# Altium footprint library PCB_Potentiostat_revA1.PcbLib: 33 footprints (part 2 of 3)
Each footprint in its own frame and in the unit in brackets; x right, y up, seen from the top. Pads: shape width x height; smd on the part's side, far side on the other; paste and mask are expansions set on the pad; w line width, h text height; cw(c..) or ccw(c..) is an arc to the next point about the centre after c.
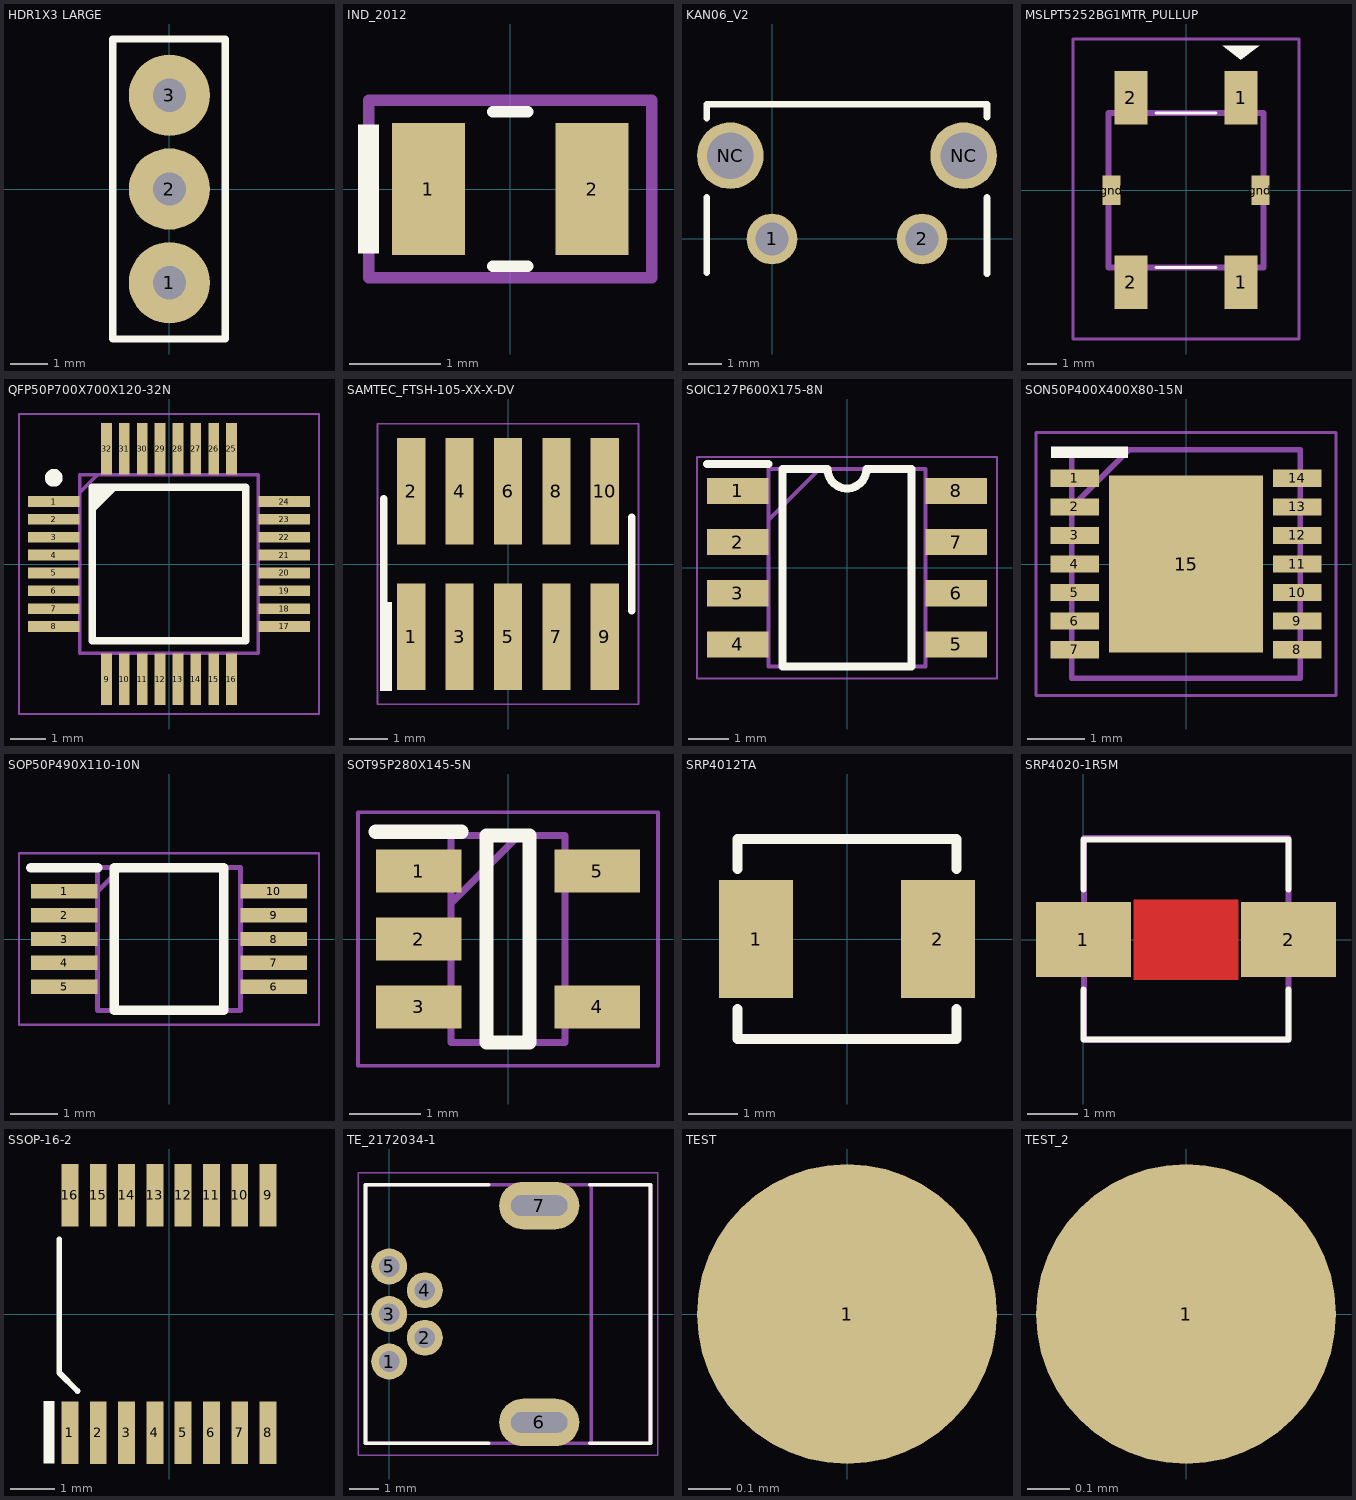
[diagram p1: the footprints below, top view; thin cyan lines are the x and y axes]

## HDR1X3 LARGE [mm] "Connector; Header; 5x2 Position"
height 1.5
pads (3):
  round 2.2 hole 0.9: 1(0,-2.54) 2(0,0) 3(0,2.54)
Top Overlay:
  lines w0.2: -1.532,-4.064 1.508,-4.064 1.508,4.064 -1.532,4.064 -1.532,-4.064

## IND_2012 [mm]
height 1.5
pads (2):
  rect 0.803x1.45 smd: 1(-0.902,0) 2(0.902,0)
Top Overlay:
  rectangle: -1.676,-0.711 -1.448,0.711
  lines w0.127: -0.192,-0.852 0.192,-0.852 ; -0.192,0.852 0.192,0.852
Mechanical 13:
  lines w0.127: -1.557,-0.979 -1.557,0.979 1.557,0.979 1.557,-0.979 -1.557,-0.979
3D body "74479023.stp": height 1.25, standoff 0, extent -1,-0.625 1,0.625

## KAN06_V2 [mm]
height 1.5
pads (4):
  round 1.524 hole 1: 1(0,0) 2(4.5,0)
  round 2 hole 1.4: NC(-1.25,2.5) NC(5.75,2.5)
Top Overlay:
  lines w0.203: -1.956,-1.016 -1.956,1.245 ; -1.956,3.632 -1.956,4.039 6.452,4.039 6.452,3.658 ; 6.452,-1.041 6.452,1.245
Mechanical 13:
  text "BOARD" at -0.025,-1.93 h1.02
3D body "KAN0631 - 0731B.stp": height 6, standoff -5, extent -1.939,-6.275 6.45,4.025

## MSLPT5252BG1MTR_PULLUP [mm]
height 1.5
pads (6):
  rect 1.1x1.8 smd: 1(1.85,-3.1) 1(1.85,3.1) 2(-1.85,-3.1) 2(-1.85,3.1)
  rect 0.6x1 smd: gnd(-2.5,0) gnd(2.5,0)
Top Overlay:
  region: 1.847,4.379 2.457,4.862 1.238,4.862
  lines w0.1: -1,-2.6 1,-2.6 ; -1,2.6 1,2.6
Mechanical 13:
  lines w0.1: -3.8,-5 -3.8,5.08 3.8,5.08 3.8,-5 -3.8,-5
  lines w0.2: -2.6,-2.6 -2.6,2.6 2.6,2.6 2.6,-2.6 -2.6,-2.6
3D body "MSLPT5252BG1MTR.stp": height 1.8, standoff 0, extent -2.74,-3.89 2.74,3.89

## QFP50P700X700X120-32N [mm]
height 1.5
pads (32):
  rect 1.45x0.3 smd: 1(-3.225,1.75) 2(-3.225,1.25) 3(-3.225,0.75) 4(-3.225,0.25) 5(-3.225,-0.25) 6(-3.225,-0.75) 7(-3.225,-1.25) 8(-3.225,-1.75) 17(3.225,-1.75) 18(3.225,-1.25) 19(3.225,-0.75) 20(3.225,-0.25) 21(3.225,0.25) 22(3.225,0.75) 23(3.225,1.25) 24(3.225,1.75)
  rect 0.3x1.45 smd: 9(-1.75,-3.225) 10(-1.25,-3.225) 11(-0.75,-3.225) 12(-0.25,-3.225) 13(0.25,-3.225) 14(0.75,-3.225) 15(1.25,-3.225) 16(1.75,-3.225) 25(1.75,3.225) 26(1.25,3.225) 27(0.75,3.225) 28(0.25,3.225) 29(-0.25,3.225) 30(-0.75,3.225) 31(-1.25,3.225) 32(-1.75,3.225)
Top Overlay:
  circle w0.25: c-3.226,2.413 r0.125
  region: -2.15,2.15 -2.159,1.397 -1.397,2.159
  lines w0.2: -2.15,-2.15 2.15,-2.15 2.15,2.15 -2.15,2.15 -2.15,-2.15
Mechanical 13:
  lines w0.05: -4.2,-4.2 4.2,-4.2 4.2,4.2 -4.2,4.2 -4.2,-4.2
  lines w0.1: -2.5,2 -2,2.5 ; -2.5,-2.5 2.5,-2.5 2.5,2.5 -2.5,2.5 -2.5,-2.5
3D body "ADS131A02IPBS.stp": height 1.12, standoff 0.03, extent -3.5,-3.5 3.5,3.5

## SAMTEC_FTSH-105-XX-X-DV [mm]
height 1.5
pads (10):
  rect 0.74x2.79 smd: 1(-2.54,-1.905) 2(-2.54,1.905) 3(-1.27,-1.905) 4(-1.27,1.905) 5(0,-1.905) 6(0,1.905) 7(1.27,-1.905) 8(1.27,1.905) 9(2.54,-1.905) 10(2.54,1.905)
Top Overlay:
  rectangle: -3.353,-3.327 -3.048,-0.991
  lines w0.2: -3.26,-1.715 -3.26,1.715 ; 3.251,-1.219 3.251,1.219
Mechanical 13:
  lines w0.05: -3.425,-3.68 -3.425,3.68 3.425,3.68 3.425,-3.68 -3.425,-3.68
3D body "step_temp.STEP": height 5.94, standoff -0.03, extent -3.175,-2.921 3.175,2.921

## SOIC127P600X175-8N [mm]
pads (8):
  rect 1.525x0.65 smd: 1(-2.712,1.905) 2(-2.712,0.635) 3(-2.712,-0.635) 4(-2.712,-1.905) 5(2.712,-1.905) 6(2.712,-0.635) 7(2.712,0.635) 8(2.712,1.905)
Top Overlay:
  lines w0.2: -3.475,2.58 -1.95,2.58 ; -0.483,2.45 -1.6,2.45 -1.6,-2.45 1.6,-2.45 1.6,2.45 0.483,2.45
  lines w0.203: -0.483,2.45 ccw(c0,2.45) 0.483,2.45
Mechanical 13:
  lines w0.05: -3.725,-2.75 -3.725,2.75 3.725,2.75 3.725,-2.75 -3.725,-2.75
  lines w0.1: -1.95,1.18 -0.68,2.45 ; -1.95,-2.45 -1.95,2.45 1.95,2.45 1.95,-2.45 -1.95,-2.45
3D body "OP275GSZ.stp": height 1.75, standoff 0, extent -3,-2.45 3,2.45

## SON50P400X400X80-15N [mm]
height 1.5
pads (15):
  rect 0.85x0.3 smd: 1(-1.95,1.5) 2(-1.95,1) 3(-1.95,0.5) 4(-1.95,0) 5(-1.95,-0.5) 6(-1.95,-1) 7(-1.95,-1.5) 8(1.95,-1.5) 9(1.95,-1) 10(1.95,-0.5) 11(1.95,0) 12(1.95,0.5) 13(1.95,1) 14(1.95,1.5)
  rect 2.7x3.1 smd paste-5.08: 15(0,0)
Top Overlay:
  rectangle: -2.362,1.854 -1.016,2.057
Top Paste:
  region: 1.27,1.524 0.127,1.524 0.127,0.127 1.27,0.127
  rectangle: -1.27,0.127 -0.127,1.524
  region: 1.27,-0.127 0.127,-0.127 0.127,-1.524 1.27,-1.524
  rectangle: -1.27,-1.524 -0.127,-0.127
Mechanical 13:
  lines w0.05: -2.625,-2.3 2.625,-2.3 2.625,2.3 -2.625,2.3 -2.625,-2.3
  lines w0.1: -2,1 -1,2 ; -2,-2 2,-2 2,2 -2,2 -2,-2
3D body "LMP91000SDE_NOPB.stp": height 2, standoff -2, extent -2,0 2,0.8

## SOP50P490X110-10N [mm]
height 1.5
pads (10):
  rect 1.4x0.3 smd: 1(-2.2,1) 2(-2.2,0.5) 3(-2.2,0) 4(-2.2,-0.5) 5(-2.2,-1) 6(2.2,-1) 7(2.2,-0.5) 8(2.2,0) 9(2.2,0.5) 10(2.2,1)
Top Overlay:
  lines w0.2: -2.9,1.5 -1.5,1.5 ; -1.15,-1.5 1.15,-1.5 1.15,1.5 -1.15,1.5 -1.15,-1.5
Mechanical 13:
  lines w0.05: -3.15,-1.8 -3.15,1.8 3.15,1.8 3.15,-1.8 -3.15,-1.8
  lines w0.1: -1.5,1 -1,1.5 ; -1.5,-1.5 1.5,-1.5 1.5,1.5 -1.5,1.5 -1.5,-1.5

## SOT95P280X145-5N [mm]
height 1.5
pads (5):
  rect 1.2x0.6 smd: 1(-1.25,0.95) 2(-1.25,0) 3(-1.25,-0.95) 4(1.25,-0.95) 5(1.25,0.95)
Top Overlay:
  lines w0.2: -1.85,1.5 -0.65,1.5 ; -0.3,-1.45 -0.3,1.45 0.3,1.45 0.3,-1.45 -0.3,-1.45
Mechanical 13:
  lines w0.05: -2.1,-1.775 -2.1,1.775 2.1,1.775 2.1,-1.775 -2.1,-1.775
  lines w0.1: -0.8,0.5 0.15,1.45 ; -0.8,-1.45 -0.8,1.45 0.8,1.45 0.8,-1.45 -0.8,-1.45
3D body "LM2735XMF_NOPB.stp": height 1.2, standoff 0, extent -1.4,-1.45 1.4,1.45

## SRP4012TA [mm] "BOURNS"
height 1.2
pads (2):
  rect 1.5x2.4 smd: 1(-1.85,0) 2(1.85,0)
Top Overlay:
  lines w0.2: -2.225,-2.03 2.225,-2.03 ; -2.225,-2.025 -2.225,-1.425 ; -2.225,1.425 -2.225,2.025 ; -2.225,2.03 2.225,2.03 2.225,1.425 ; 2.225,-2.025 2.225,-1.425
3D body: height 1.2, standoff 0, extent -2.225,-2.025 2.225,2.025

## SRP4020-1R5M [mm]
pads (2):
  rect 1.9x1.5 smd: 1(0,0) 2(4.1,0)
Top Layer:
  pour cut-out: 1,0.8 3.1,0.8 3.1,-0.8 1,-0.8
Top Overlay:
  lines w0.127: 0,-1 0,-2 4.1,-2 4.1,-1 ; 0,1 0,2 4.1,2 4.1,1
Mechanical 13:
  lines w0.127: 0.01,-2.005 0.01,2.025 4.1,2.025 4.1,-2.005 0.01,-2.005
  text ".Designator" at 0.55,1.275 h0.3
3D body: height 2, standoff 0.3, extent 0.05,-2 4.05,2

## SSOP-16-2 [mil]
height 59.06
pads (16):
  rect 15x55 smd: 1(-87.5,-105) 2(-62.5,-105) 3(-37.5,-105) 4(-12.5,-105) 5(12.5,-105) 6(37.5,-105) 7(62.5,-105) 8(87.5,-105) 9(87.5,105) 10(62.5,105) 11(37.5,105) 12(12.5,105) 13(-12.5,105) 14(-37.5,105) 15(-62.5,105) 16(-87.5,105)
Top Overlay:
  rectangle: -111,-132 -101,-77
  lines w5: -97,65.94 -97,-51.94 -80.87,-68.07
3D body "tssop_16.step": height 47, standoff -1, extent -97.53,-125.56 99.32,126.5

## TE_2172034-1 [mm]
height 1.5
pads (7):
  round 1.208 hole 0.7: 1(0,-1.6) 2(1.2,-0.8) 3(0,0) 4(1.2,0.8) 5(0,1.6)
  oval 2.7x1.6 hole 1.9 slot 0.7 at 90 deg: 6(5.05,-3.65) 7(5.05,3.65)
Top Overlay:
  lines w0.127: 3.35,-4.35 -0.8,-4.35 -0.8,4.35 3.35,4.35 ; 6.75,-4.35 8.8,-4.35 8.8,4.35 6.75,4.35
Mechanical 13:
  lines w0.05: -1.05,-4.75 -1.05,4.75 9.05,4.75 9.05,-4.75 -1.05,-4.75
  lines w0.127: 6.8,-4.35 6.8,4.35 ; 6.8,-4.35 8.8,-4.35 8.8,4.35 6.8,4.35 ; 6.8,-4.35 -0.8,-4.35 -0.8,4.35 6.8,4.35
3D body "Conector_USB_PTH.STEP": height 4.04, standoff -2.9, extent -0.794,-4.375 8.806,4.325

## TEST [mm]
height 1
pads (1):
  round 0.7 smd: 1(0,0)

## TEST_2 [mm]
pads (1):
  round 0.7 smd: 1(0,0)